# Altium footprint library DO35.PcbLib: 1 footprints
Each footprint in its own frame and in the unit in brackets; x right, y up, seen from the top. Pads: shape width x height; smd on the part's side, far side on the other; paste and mask are expansions set on the pad; w line width, h text height; cw(c..) or ccw(c..) is an arc to the next point about the centre after c.
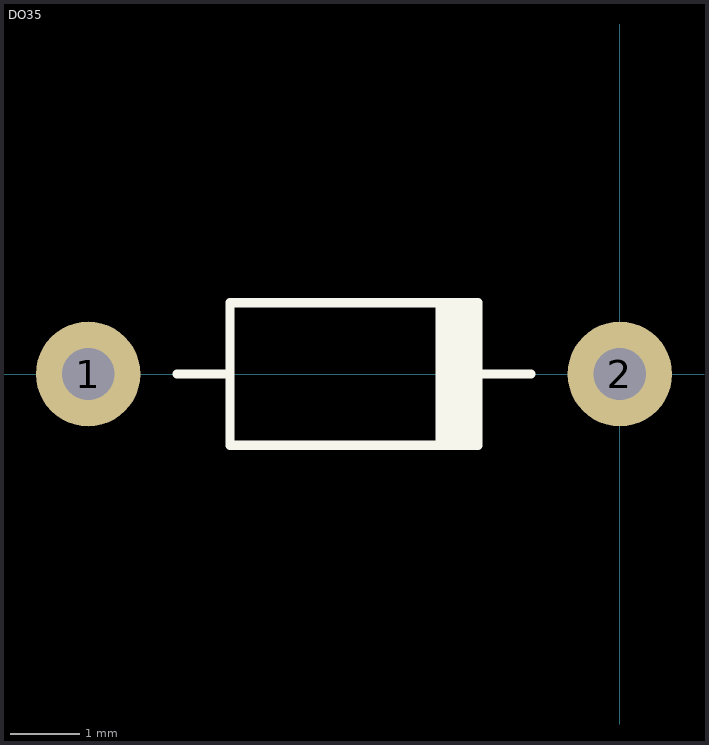
[diagram p0: the footprint, top view; thin cyan lines are the x and y axes]

## DO35 [mm]
pads (2):
  round 1.5 hole 0.75: 1(-7.62,0) 2(0,0)
Top Overlay:
  rectangle: -2.642,-1.024 -2.032,1.024
  lines w0.127: -6.35,0 -5.588,0 ; -5.588,-1.024 -2.032,-1.024 ; -5.588,1.024 -2.032,1.024 ; -2.032,0 -1.27,0 ; -1.778,0 -1.524,0 ; -5.588,-1.016 -2.032,-1.016 -2.032,1.016 -5.588,1.016 -5.588,-1.016
3D body: height 1.29, standoff -2.72, extent -7.931,-1.014 0.209,1.006